# EAGLE library part TINYPICO_ESP32 (library TinyPICO_ESP32)
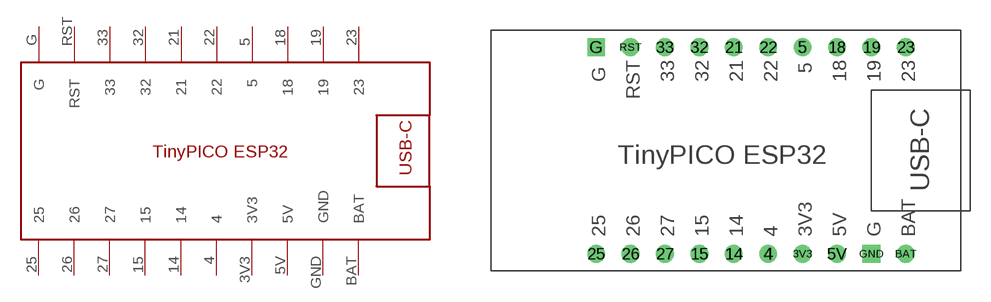
[diagram p0: symbol with the pads of TINYPICO_ESP32; footprint TINYPICO_ESP32]

Designator prefix -

## TINYPICO_ESP32  [TINYPICO_ESP32]
3V3  3V3
4  4
5  5
5V  5V
14  14
15  15
18  18
19  19
21  21
22  22
23  23
25  25
26  26
27  27
32  32
33  33
BAT  BAT
G  G
GND  GND
RST  RST

## Footprint TINYPICO_ESP32 (pad centres in mm)
drill 0.8: 3V3 5.65,-7.635; 4 3.11,-7.635; 5 5.65,7.635; 5V 8.19,-7.635; 14 0.57,-7.635; 15 -1.97,-7.635; 18 8.19,7.635; 19 10.73,7.635; 21 0.57,7.635; 22 3.11,7.635; 23 13.27,7.635; 25 -9.59,-7.635; 26 -7.05,-7.635; 27 -4.51,-7.635; 32 -1.97,7.635; 33 -4.51,7.635; BAT 13.27,-7.635; RST -7.05,7.635
drill 0.8 square: G -9.59,7.635; GND 10.73,-7.635